# Altium footprint library KF2EDGK.PcbLib: 86 footprints (part 5 of 6)
Each footprint in its own frame and in the unit in brackets; x right, y up, seen from the top. Pads: shape width x height; smd on the part's side, far side on the other; paste and mask are expansions set on the pad; w line width, h text height; cw(c..) or ccw(c..) is an arc to the next point about the centre after c.
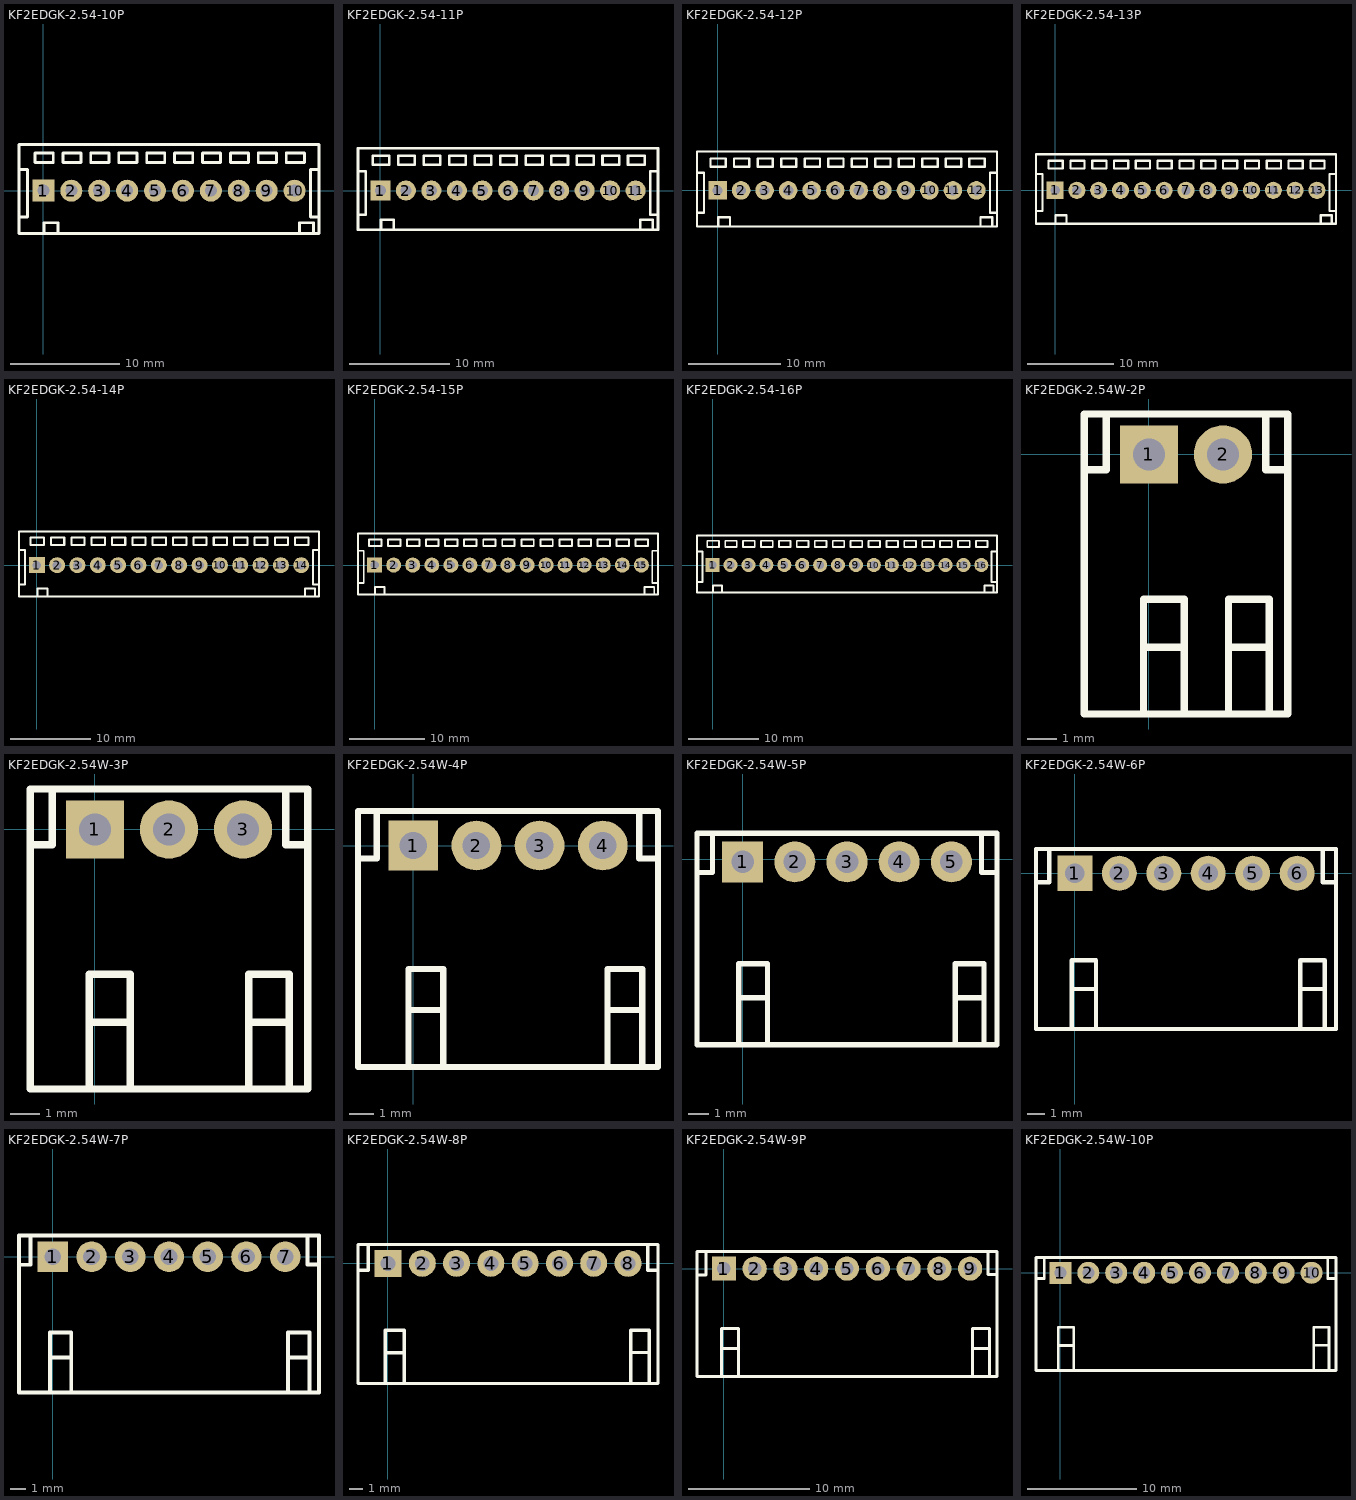
[diagram p4: the footprints below, top view; thin cyan lines are the x and y axes]

## KF2EDGK-2.54-10P [mm]
pads (10):
  rect 2x2 hole 1.1: 1(0,0)
  round 2 hole 1.1: 2(2.54,0) 3(5.08,0) 4(7.62,0) 5(10.16,0) 6(12.7,0) 7(15.24,0) 8(17.78,0) 9(20.32,0) 10(22.86,0)
Top Overlay:
  lines w0.254: 0.066,-3.839 0.066,-2.912 1.336,-2.912 1.336,-3.839 ; 23.307,-3.839 23.307,-2.912 24.577,-2.912 24.577,-3.839 ; 25.08,-2.404 24.318,-2.404 24.318,1.914 25.08,1.914 ; -2.22,-2.404 -2.22,-3.9 25.08,-3.9 25.08,1.914 ; -2.22,-2.404 -1.458,-2.404 -1.458,1.914 -2.22,1.914 ; -2.22,-2.404 -2.22,1.914 ; -2.22,1.914 -2.22,4.2 25.08,4.2 25.08,1.914 ; -0.762,2.549 -0.762,3.438 0.889,3.438 0.889,2.549 -0.762,2.549 ; 1.778,2.549 1.778,3.438 3.429,3.438 3.429,2.549 1.778,2.549 ; 4.318,2.549 4.318,3.438 5.969,3.438 5.969,2.549 4.318,2.549 ; 6.858,2.549 6.858,3.438 8.509,3.438 8.509,2.549 6.858,2.549 ; 9.398,2.549 11.049,2.549 11.049,3.438 9.398,3.438 9.398,2.549 ; 11.938,2.549 11.938,3.438 13.589,3.438 13.589,2.549 11.938,2.549 ; 14.478,2.549 14.478,3.438 16.129,3.438 16.129,2.549 14.478,2.549 ; 17.018,2.549 17.018,3.438 18.669,3.438 18.669,2.549 17.018,2.549 ; 19.558,2.549 19.558,3.438 21.209,3.438 21.209,2.549 19.558,2.549 ; 22.098,2.549 23.749,2.549 23.749,3.438 22.098,3.438 22.098,2.549
3D body "KF2EDGK-2.54-10P.STEP": height 10.15, standoff -3.15, extent -2.23,-3.923 25.07,4.177

## KF2EDGK-2.54-11P [mm]
pads (11):
  rect 2x2 hole 1.1: 1(0,0)
  round 2 hole 1.1: 2(2.54,0) 3(5.08,0) 4(7.62,0) 5(10.16,0) 6(12.7,0) 7(15.24,0) 8(17.78,0) 9(20.32,0) 10(22.86,0) 11(25.4,0)
Top Overlay:
  lines w0.254: 0.066,-3.839 0.066,-2.912 1.336,-2.912 1.336,-3.839 ; 25.847,-3.839 25.847,-2.912 27.117,-2.912 27.117,-3.839 ; 27.62,-2.404 26.858,-2.404 26.858,1.914 27.62,1.914 ; -2.22,-2.404 -2.22,1.914 ; -2.22,-2.404 -1.458,-2.404 -1.458,1.914 -2.22,1.914 ; -2.22,-2.404 -2.22,-3.9 27.62,-3.9 27.62,1.914 ; -2.22,1.914 -2.22,4.2 27.62,4.2 27.62,1.914 ; -0.762,2.549 -0.762,3.438 0.889,3.438 0.889,2.549 -0.762,2.549 ; 1.778,2.549 1.778,3.438 3.429,3.438 3.429,2.549 1.778,2.549 ; 4.318,2.549 4.318,3.438 5.969,3.438 5.969,2.549 4.318,2.549 ; 6.858,2.549 6.858,3.438 8.509,3.438 8.509,2.549 6.858,2.549 ; 9.398,2.549 11.049,2.549 11.049,3.438 9.398,3.438 9.398,2.549 ; 11.938,2.549 11.938,3.438 13.589,3.438 13.589,2.549 11.938,2.549 ; 14.478,2.549 14.478,3.438 16.129,3.438 16.129,2.549 14.478,2.549 ; 17.018,2.549 17.018,3.438 18.669,3.438 18.669,2.549 17.018,2.549 ; 19.558,2.549 19.558,3.438 21.209,3.438 21.209,2.549 19.558,2.549 ; 22.098,2.549 23.749,2.549 23.749,3.438 22.098,3.438 22.098,2.549 ; 24.638,2.549 26.289,2.549 26.289,3.438 24.638,3.438 24.638,2.549
3D body "KF2EDGK-2.54-11P.STEP": height 10.15, standoff -3.15, extent -2.205,-3.923 27.635,4.177

## KF2EDGK-2.54-12P [mm]
pads (12):
  rect 2x2 hole 1.1: 1(0,0)
  round 2 hole 1.1: 2(2.54,0) 3(5.08,0) 4(7.62,0) 5(10.16,0) 6(12.7,0) 7(15.24,0) 8(17.78,0) 9(20.32,0) 10(22.86,0) 11(25.4,0) 12(27.94,0)
Top Overlay:
  lines w0.254: 0.066,-3.839 0.066,-2.912 1.336,-2.912 1.336,-3.839 ; 28.387,-3.839 28.387,-2.912 29.657,-2.912 29.657,-3.839 ; 30.16,-2.404 29.398,-2.404 29.398,1.914 30.16,1.914 ; -2.22,-2.404 -2.22,1.914 ; -2.22,-2.404 -1.458,-2.404 -1.458,1.914 -2.22,1.914 ; -2.22,-2.404 -2.22,-3.9 30.16,-3.9 30.16,1.914 ; -2.22,1.914 -2.22,4.2 30.16,4.2 30.16,1.914 ; -0.762,2.549 0.889,2.549 0.889,3.438 -0.762,3.438 -0.762,2.549 ; 1.778,2.549 3.429,2.549 3.429,3.438 1.778,3.438 1.778,2.549 ; 4.318,2.549 5.969,2.549 5.969,3.438 4.318,3.438 4.318,2.549 ; 6.858,2.549 8.509,2.549 8.509,3.438 6.858,3.438 6.858,2.549 ; 9.398,2.549 9.398,3.438 11.049,3.438 11.049,2.549 9.398,2.549 ; 11.938,2.549 13.589,2.549 13.589,3.438 11.938,3.438 11.938,2.549 ; 14.478,2.549 16.129,2.549 16.129,3.438 14.478,3.438 14.478,2.549 ; 17.018,2.549 18.669,2.549 18.669,3.438 17.018,3.438 17.018,2.549 ; 19.558,2.549 21.209,2.549 21.209,3.438 19.558,3.438 19.558,2.549 ; 22.098,2.549 22.098,3.438 23.749,3.438 23.749,2.549 22.098,2.549 ; 24.638,2.549 24.638,3.438 26.289,3.438 26.289,2.549 24.638,2.549 ; 27.178,2.549 27.178,3.438 28.829,3.438 28.829,2.549 27.178,2.549
3D body "KF2EDGK-2.54-12P.STEP": height 10.15, standoff -3.15, extent -2.179,-3.912 30.201,4.188

## KF2EDGK-2.54-13P [mm]
pads (13):
  rect 2x2 hole 1.1: 1(0,0)
  round 2 hole 1.1: 2(2.54,0) 3(5.08,0) 4(7.62,0) 5(10.16,0) 6(12.7,0) 7(15.24,0) 8(17.78,0) 9(20.32,0) 10(22.86,0) 11(25.4,0) 12(27.94,0) 13(30.48,0)
Top Overlay:
  lines w0.254: 0.066,-3.839 0.066,-2.912 1.336,-2.912 1.336,-3.839 ; 30.927,-3.839 30.927,-2.912 32.197,-2.912 32.197,-3.839 ; 32.7,-2.404 31.938,-2.404 31.938,1.914 32.7,1.914 ; -2.22,-2.404 -2.22,-3.9 32.7,-3.9 32.7,1.914 ; -2.22,-2.404 -1.458,-2.404 -1.458,1.914 -2.22,1.914 ; -2.22,-2.404 -2.22,1.914 ; -2.22,1.914 -2.22,4.2 32.7,4.2 32.7,1.914 ; -0.762,2.549 -0.762,3.438 0.889,3.438 0.889,2.549 -0.762,2.549 ; 1.778,2.549 1.778,3.438 3.429,3.438 3.429,2.549 1.778,2.549 ; 4.318,2.549 4.318,3.438 5.969,3.438 5.969,2.549 4.318,2.549 ; 6.858,2.549 6.858,3.438 8.509,3.438 8.509,2.549 6.858,2.549 ; 9.398,2.549 11.049,2.549 11.049,3.438 9.398,3.438 9.398,2.549 ; 11.938,2.549 11.938,3.438 13.589,3.438 13.589,2.549 11.938,2.549 ; 14.478,2.549 14.478,3.438 16.129,3.438 16.129,2.549 14.478,2.549 ; 17.018,2.549 17.018,3.438 18.669,3.438 18.669,2.549 17.018,2.549 ; 19.558,2.549 19.558,3.438 21.209,3.438 21.209,2.549 19.558,2.549 ; 22.098,2.549 23.749,2.549 23.749,3.438 22.098,3.438 22.098,2.549 ; 24.638,2.549 26.289,2.549 26.289,3.438 24.638,3.438 24.638,2.549 ; 27.178,2.549 28.829,2.549 28.829,3.438 27.178,3.438 27.178,2.549 ; 29.718,2.549 31.369,2.549 31.369,3.438 29.718,3.438 29.718,2.549
3D body "KF2EDGK-2.54-13P.STEP": height 10.15, standoff -3.15, extent -2.23,-3.898 32.69,4.202

## KF2EDGK-2.54-14P [mm]
pads (14):
  rect 2x2 hole 1.1: 1(0,0)
  round 2 hole 1.1: 2(2.54,0) 3(5.08,0) 4(7.62,0) 5(10.16,0) 6(12.7,0) 7(15.24,0) 8(17.78,0) 9(20.32,0) 10(22.86,0) 11(25.4,0) 12(27.94,0) 13(30.48,0) 14(33.02,0)
Top Overlay:
  lines w0.254: 0.066,-3.839 0.066,-2.912 1.336,-2.912 1.336,-3.839 ; 33.467,-3.839 33.467,-2.912 34.737,-2.912 34.737,-3.839 ; 35.24,-2.404 34.478,-2.404 34.478,1.914 35.24,1.914 ; -2.22,-2.404 -2.22,1.914 ; -2.22,-2.404 -1.458,-2.404 -1.458,1.914 -2.22,1.914 ; -2.22,-2.404 -2.22,-3.9 35.24,-3.9 35.24,1.914 ; -2.22,1.914 -2.22,4.2 35.24,4.2 35.24,1.914 ; -0.762,2.549 0.889,2.549 0.889,3.438 -0.762,3.438 -0.762,2.549 ; 1.778,2.549 3.429,2.549 3.429,3.438 1.778,3.438 1.778,2.549 ; 4.318,2.549 5.969,2.549 5.969,3.438 4.318,3.438 4.318,2.549 ; 6.858,2.549 8.509,2.549 8.509,3.438 6.858,3.438 6.858,2.549 ; 9.398,2.549 9.398,3.438 11.049,3.438 11.049,2.549 9.398,2.549 ; 11.938,2.549 13.589,2.549 13.589,3.438 11.938,3.438 11.938,2.549 ; 14.478,2.549 16.129,2.549 16.129,3.438 14.478,3.438 14.478,2.549 ; 17.018,2.549 18.669,2.549 18.669,3.438 17.018,3.438 17.018,2.549 ; 19.558,2.549 21.209,2.549 21.209,3.438 19.558,3.438 19.558,2.549 ; 22.098,2.549 22.098,3.438 23.749,3.438 23.749,2.549 22.098,2.549 ; 24.638,2.549 24.638,3.438 26.289,3.438 26.289,2.549 24.638,2.549 ; 27.178,2.549 27.178,3.438 28.829,3.438 28.829,2.549 27.178,2.549 ; 29.718,2.549 29.718,3.438 31.369,3.438 31.369,2.549 29.718,2.549 ; 32.258,2.549 32.258,3.438 33.909,3.438 33.909,2.549 32.258,2.549
3D body "KF2EDGK-2.54-14P.STEP": height 10.15, standoff -3.15, extent -2.23,-3.948 35.23,4.152

## KF2EDGK-2.54-15P [mm]
pads (15):
  rect 2x2 hole 1.1: 1(0,0)
  round 2 hole 1.1: 2(2.54,0) 3(5.08,0) 4(7.62,0) 5(10.16,0) 6(12.7,0) 7(15.24,0) 8(17.78,0) 9(20.32,0) 10(22.86,0) 11(25.4,0) 12(27.94,0) 13(30.48,0) 14(33.02,0) 15(35.56,0)
Top Overlay:
  lines w0.254: 0.066,-3.839 0.066,-2.912 1.336,-2.912 1.336,-3.839 ; 36.007,-3.839 36.007,-2.912 37.277,-2.912 37.277,-3.839 ; 37.78,-2.404 37.018,-2.404 37.018,1.914 37.78,1.914 ; -2.22,-2.404 -2.22,-3.9 37.78,-3.9 37.78,1.914 ; -2.22,-2.404 -1.458,-2.404 -1.458,1.914 -2.22,1.914 ; -2.22,-2.404 -2.22,1.914 ; -2.22,1.914 -2.22,4.2 37.78,4.2 37.78,1.914 ; -0.762,2.549 0.889,2.549 0.889,3.438 -0.762,3.438 -0.762,2.549 ; 1.778,2.549 3.429,2.549 3.429,3.438 1.778,3.438 1.778,2.549 ; 4.318,2.549 5.969,2.549 5.969,3.438 4.318,3.438 4.318,2.549 ; 6.858,2.549 8.509,2.549 8.509,3.438 6.858,3.438 6.858,2.549 ; 9.398,2.549 9.398,3.438 11.049,3.438 11.049,2.549 9.398,2.549 ; 11.938,2.549 13.589,2.549 13.589,3.438 11.938,3.438 11.938,2.549 ; 14.478,2.549 16.129,2.549 16.129,3.438 14.478,3.438 14.478,2.549 ; 17.018,2.549 18.669,2.549 18.669,3.438 17.018,3.438 17.018,2.549 ; 19.558,2.549 21.209,2.549 21.209,3.438 19.558,3.438 19.558,2.549 ; 22.098,2.549 22.098,3.438 23.749,3.438 23.749,2.549 22.098,2.549 ; 24.638,2.549 26.289,2.549 26.289,3.438 24.638,3.438 24.638,2.549 ; 27.178,2.549 28.829,2.549 28.829,3.438 27.178,3.438 27.178,2.549 ; 29.718,2.549 31.369,2.549 31.369,3.438 29.718,3.438 29.718,2.549 ; 32.258,2.549 33.909,2.549 33.909,3.438 32.258,3.438 32.258,2.549 ; 34.798,2.549 34.798,3.438 36.449,3.438 36.449,2.549 34.798,2.549
3D body "KF2EDGK-2.54-15P.STEP": height 10.15, standoff -3.15, extent -2.184,-3.923 37.816,4.177

## KF2EDGK-2.54-16P [mm]
pads (16):
  rect 2x2 hole 1.1: 1(0,0)
  round 2 hole 1.1: 2(2.54,0) 3(5.08,0) 4(7.62,0) 5(10.16,0) 6(12.7,0) 7(15.24,0) 8(17.78,0) 9(20.32,0) 10(22.86,0) 11(25.4,0) 12(27.94,0) 13(30.48,0) 14(33.02,0) 15(35.56,0) 16(38.1,0)
Top Overlay:
  lines w0.254: 0.066,-3.839 0.066,-2.912 1.336,-2.912 1.336,-3.839 ; 38.547,-3.839 38.547,-2.912 39.817,-2.912 39.817,-3.839 ; 40.32,-2.404 39.558,-2.404 39.558,1.914 40.32,1.914 ; -2.22,-2.404 -2.22,-3.9 40.32,-3.9 40.32,1.914 ; -2.22,-2.404 -1.458,-2.404 -1.458,1.914 -2.22,1.914 ; -2.22,-2.404 -2.22,1.914 ; -2.22,1.914 -2.22,4.2 40.32,4.2 40.32,1.914 ; -0.762,2.549 0.889,2.549 0.889,3.438 -0.762,3.438 -0.762,2.549 ; 1.778,2.549 3.429,2.549 3.429,3.438 1.778,3.438 1.778,2.549 ; 4.318,2.549 5.969,2.549 5.969,3.438 4.318,3.438 4.318,2.549 ; 6.858,2.549 8.509,2.549 8.509,3.438 6.858,3.438 6.858,2.549 ; 9.398,2.549 9.398,3.438 11.049,3.438 11.049,2.549 9.398,2.549 ; 11.938,2.549 13.589,2.549 13.589,3.438 11.938,3.438 11.938,2.549 ; 14.478,2.549 16.129,2.549 16.129,3.438 14.478,3.438 14.478,2.549 ; 17.018,2.549 18.669,2.549 18.669,3.438 17.018,3.438 17.018,2.549 ; 19.558,2.549 21.209,2.549 21.209,3.438 19.558,3.438 19.558,2.549 ; 22.098,2.549 22.098,3.438 23.749,3.438 23.749,2.549 22.098,2.549 ; 24.638,2.549 26.289,2.549 26.289,3.438 24.638,3.438 24.638,2.549 ; 27.178,2.549 28.829,2.549 28.829,3.438 27.178,3.438 27.178,2.549 ; 29.718,2.549 31.369,2.549 31.369,3.438 29.718,3.438 29.718,2.549 ; 32.258,2.549 33.909,2.549 33.909,3.438 32.258,3.438 32.258,2.549 ; 34.798,2.549 34.798,3.438 36.449,3.438 36.449,2.549 34.798,2.549 ; 37.338,2.549 38.989,2.549 38.989,3.438 37.338,3.438 37.338,2.549
3D body "KF2EDGK-2.54-16P.STEP": height 10.15, standoff -3.15, extent -2.184,-3.923 40.356,4.177

## KF2EDGK-2.54W-2P [mm]
pads (2):
  rect 2x2 hole 1.1: 1(0,0)
  round 2 hole 1.1: 2(2.54,0)
Top Overlay:
  lines w0.254: -2.22,-0.518 -1.463,-0.518 -1.463,1.387 ; -0.188,-8.9 -0.188,-4.963 1.209,-4.963 1.209,-8.9 ; -0.188,-6.614 1.209,-6.614 ; 2.728,-8.9 2.728,-4.963 4.125,-4.963 4.125,-8.9 ; 2.728,-6.614 4.125,-6.614 ; 4.003,1.387 4.003,-0.518 4.76,-0.518 ; -2.22,-8.9 -2.22,1.387 4.76,1.387 4.76,-8.9 -2.22,-8.9
3D body "KF2EDGK-2.54W-2P.STEP": height 8.15, standoff -3.25, extent -2.235,-8.911 4.745,1.189

## KF2EDGK-2.54W-3P [mm]
pads (3):
  rect 2x2 hole 1.1: 1(0,0)
  round 2 hole 1.1: 2(2.54,0) 3(5.08,0)
Top Overlay:
  lines w0.254: -2.22,-0.518 -1.463,-0.518 -1.463,1.387 ; -0.188,-8.9 -0.188,-4.963 1.209,-4.963 1.209,-8.9 ; -0.188,-6.614 1.209,-6.614 ; 5.268,-8.9 5.268,-4.963 6.665,-4.963 6.665,-8.9 ; 5.268,-6.614 6.665,-6.614 ; 6.543,1.387 6.543,-0.518 7.3,-0.518 ; -2.22,-8.9 -2.22,1.387 7.3,1.387 7.3,-8.9 -2.22,-8.9
3D body "KF2EDGK-2.54W-3P.STEP": height 8.15, standoff -3.25, extent -2.195,-8.906 7.325,1.194

## KF2EDGK-2.54W-4P [mm]
pads (4):
  rect 2x2 hole 1.1: 1(0,0)
  round 2 hole 1.1: 2(2.54,0) 3(5.08,0) 4(7.62,0)
Top Overlay:
  lines w0.254: -2.22,-0.518 -1.463,-0.518 -1.463,1.387 ; -0.188,-8.9 -0.188,-4.963 1.209,-4.963 1.209,-8.9 ; -0.188,-6.614 1.209,-6.614 ; 7.808,-8.9 7.808,-4.963 9.205,-4.963 9.205,-8.9 ; 7.808,-6.614 9.205,-6.614 ; 9.083,1.387 9.083,-0.518 9.84,-0.518 ; -2.22,-8.9 9.84,-8.9 9.84,1.387 -2.22,1.387 -2.22,-8.9
3D body "KF2EDGK-2.54W-4P.STEP": height 8.15, standoff -3.25, extent -2.21,-8.881 9.85,1.219

## KF2EDGK-2.54W-5P [mm]
pads (5):
  rect 2x2 hole 1.1: 1(0,-0.127)
  round 2 hole 1.1: 2(2.54,-0.127) 3(5.08,-0.127) 4(7.62,-0.127) 5(10.16,-0.127)
Top Overlay:
  lines w0.254: -2.22,-0.645 -1.463,-0.645 -1.463,1.26 ; -0.188,-9.027 -0.188,-5.09 1.209,-5.09 1.209,-9.027 ; -0.188,-6.741 1.209,-6.741 ; 10.348,-9.027 10.348,-5.09 11.745,-5.09 11.745,-9.027 ; 10.348,-6.741 11.745,-6.741 ; 11.623,1.26 11.623,-0.645 12.38,-0.645 ; -2.22,-9.027 12.38,-9.027 12.38,1.26 -2.22,1.26 -2.22,-9.027
3D body "KF2EDGK-2.54W-5P.STEP": height 8.15, standoff -3.25, extent -2.21,-9.012 12.39,1.088

## KF2EDGK-2.54W-6P [mm]
pads (6):
  rect 2x2 hole 1.1: 1(0,0)
  round 2 hole 1.1: 2(2.54,0) 3(5.08,0) 4(7.62,0) 5(10.16,0) 6(12.7,0)
Top Overlay:
  lines w0.254: -2.22,-0.518 -1.463,-0.518 -1.463,1.387 ; -0.188,-8.9 -0.188,-4.963 1.209,-4.963 1.209,-8.9 ; -0.188,-6.614 1.209,-6.614 ; 12.888,-8.9 12.888,-4.963 14.285,-4.963 14.285,-8.9 ; 12.888,-6.614 14.285,-6.614 ; 14.163,1.387 14.163,-0.518 14.92,-0.518 ; -2.22,-8.9 14.92,-8.9 14.92,1.387 -2.22,1.387 -2.22,-8.9
3D body "KF2EDGK-2.54W-6P.STEP": height 8.15, standoff -3.25, extent -2.21,-8.885 14.93,1.215

## KF2EDGK-2.54W-7P [mm]
pads (7):
  rect 2x2 hole 1.1: 1(0,0)
  round 2 hole 1.1: 2(2.54,0) 3(5.08,0) 4(7.62,0) 5(10.16,0) 6(12.7,0) 7(15.24,0)
Top Overlay:
  lines w0.254: -2.22,-0.518 -1.463,-0.518 -1.463,1.387 ; -2.22,1.387 -2.22,-8.9 17.46,-8.9 ; -2.22,1.397 17.46,1.397 17.46,-8.89 ; -0.188,-8.9 -0.188,-4.963 1.209,-4.963 1.209,-8.9 ; -0.188,-6.614 1.209,-6.614 ; 15.428,-8.89 15.428,-4.953 16.825,-4.953 16.825,-8.89 ; 15.428,-6.604 16.825,-6.604 ; 16.703,1.397 16.703,-0.508 17.46,-0.508
3D body "KF2EDGK-2.54W-7P.STEP": height 8.15, standoff -3.25, extent -2.184,-8.906 17.496,1.194

## KF2EDGK-2.54W-8P [mm]
pads (8):
  rect 2x2 hole 1.1: 1(0,0)
  round 2 hole 1.1: 2(2.54,0) 3(5.08,0) 4(7.62,0) 5(10.16,0) 6(12.7,0) 7(15.24,0) 8(17.78,0)
Top Overlay:
  lines w0.254: -2.22,-0.518 -1.463,-0.518 -1.463,1.387 ; -2.22,1.387 -2.22,-8.9 20,-8.9 ; -2.22,1.397 20,1.397 20,-8.89 ; -0.188,-8.9 -0.188,-4.963 1.209,-4.963 1.209,-8.9 ; -0.188,-6.614 1.209,-6.614 ; 17.968,-8.89 17.968,-4.953 19.365,-4.953 19.365,-8.89 ; 17.968,-6.604 19.365,-6.604 ; 19.243,1.397 19.243,-0.508 20,-0.508
3D body "KF2EDGK-2.54W-8P.STEP": height 8.15, standoff -3.25, extent -4.252,-8.9 17.968,1.2

## KF2EDGK-2.54W-9P [mm]
pads (9):
  rect 2x2 hole 1.1: 1(0,0)
  round 2 hole 1.1: 2(2.54,0) 3(5.08,0) 4(7.62,0) 5(10.16,0) 6(12.7,0) 7(15.24,0) 8(17.78,0) 9(20.32,0)
Top Overlay:
  lines w0.254: -2.22,-0.518 -1.463,-0.518 -1.463,1.387 ; -2.22,1.387 -2.22,-8.9 22.54,-8.9 ; -2.22,1.397 22.54,1.397 22.54,-8.89 ; -0.188,-8.9 -0.188,-4.963 1.209,-4.963 1.209,-8.9 ; -0.188,-6.614 1.209,-6.614 ; 20.508,-8.89 20.508,-4.953 21.905,-4.953 21.905,-8.89 ; 20.508,-6.604 21.905,-6.604 ; 21.783,1.397 21.783,-0.508 22.54,-0.508
3D body "KF2EDGK-2.54W-9P.STEP": height 8.15, standoff -3.25, extent -2.261,-8.962 22.499,1.138

## KF2EDGK-2.54W-10P [mm] "长：27.3mm，宽：10.1mm，高：8.1mm"
pads (10):
  rect 2x2 hole 1.1: 1(0,0)
  round 2 hole 1.1: 2(2.54,0) 3(5.08,0) 4(7.62,0) 5(10.16,0) 6(12.7,0) 7(15.24,0) 8(17.78,0) 9(20.32,0) 10(22.86,0)
Top Overlay:
  lines w0.254: -2.22,-0.518 -1.463,-0.518 -1.463,1.387 ; -2.22,1.387 -2.22,-8.9 25.08,-8.9 ; -2.22,1.397 25.08,1.397 25.08,-8.89 ; -0.188,-8.9 -0.188,-4.963 1.209,-4.963 1.209,-8.9 ; -0.188,-6.614 1.209,-6.614 ; 23.048,-8.89 23.048,-4.953 24.445,-4.953 24.445,-8.89 ; 23.048,-6.604 24.445,-6.604 ; 24.323,1.397 24.323,-0.508 25.08,-0.508
3D body "KF2EDGK-2.54W-10P.STEP": height 8.15, standoff -3.25, extent -2.21,-8.957 25.09,1.143